# Altium footprint library Jack Alim.PcbLib: 1 footprints
Each footprint in its own frame and in the unit in brackets; x right, y up, seen from the top. Pads: shape width x height; smd on the part's side, far side on the other; paste and mask are expansions set on the pad; w line width, h text height; cw(c..) or ccw(c..) is an arc to the next point about the centre after c.
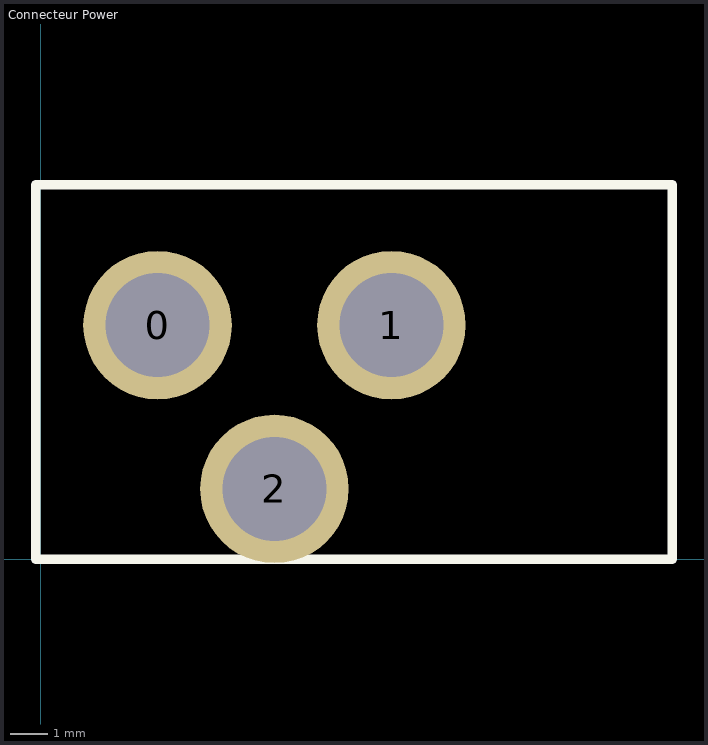
[diagram p0: the footprint, top view; thin cyan lines are the x and y axes]

## Connecteur Power [mm]
pads (3):
  round 4 hole 2.8: 0(3.15,6.3) 1(9.45,6.3) 2(6.3,1.89)
Top Overlay:
  lines w0.254: -0.127,0 -0.127,10.08 17.01,10.08 17.01,0 -0.127,0